# Altium schematic symbol library CompoLib.SchLib: 12 symbols
Pins are listed as number, name and electrical type; pins without a type are passive.

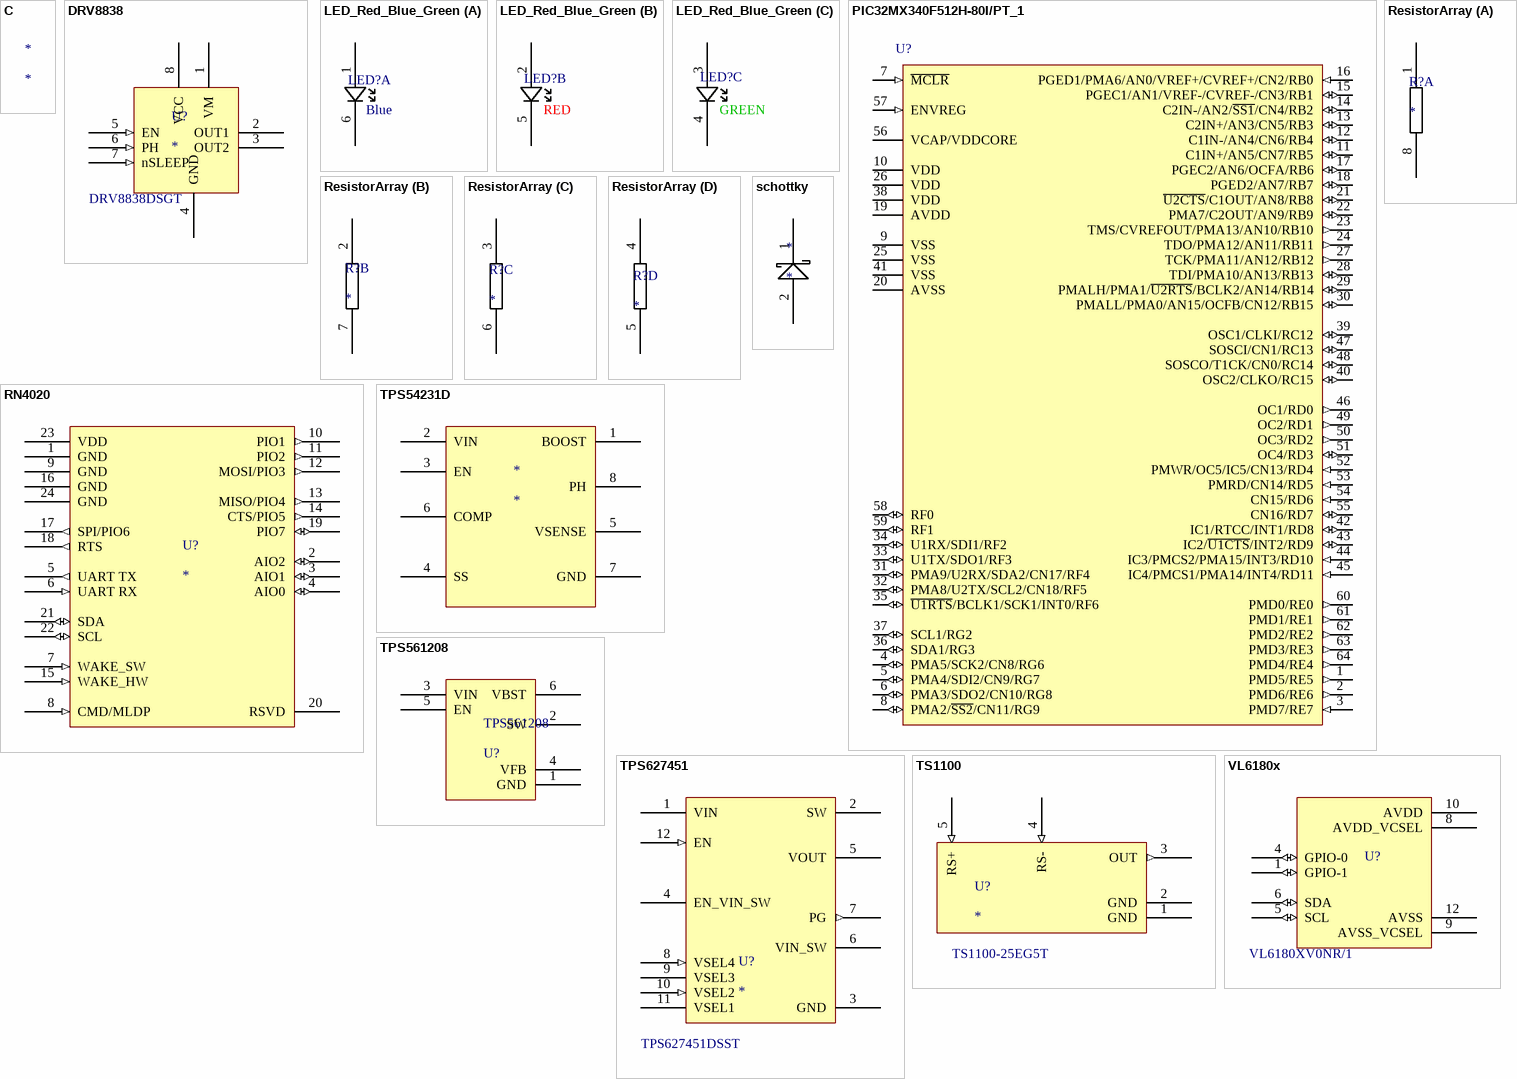
[diagram p0: symbols C to VL6180x]

## C
designator *

## DRV8838
designator U?  RefFabricant: DRV8838DSGT
Moteur Driver [H - bridge]; Fabricant: Texas instrument; Fournisseur: farnell; RefFournisseur: *; Footprint: S-PWSON-N8
footprint S-PWSON-N8
pins: 1 VM (power), 2 OUT1, 3 OUT2, 4 GND (power), 5 EN (in), 6 PH (in), 7 nSLEEP (in), 8 VCC (power)

## LED_Red_Blue_Green
designator LED?
PICOLED, Rouge, Vert, Bleu, CMS, Rectangulaire, R 5mA, G 5mA, B 5mA; Fournisseur: Farnell; RefFournisseur: 2507558RL; Fabricant: ROHM; RefFabricant: SMLP36RGB2W3R
footprint SMLP36 (PICOLED - RGB)
part A pins: 1, 6
part B pins: 2, 5
part C pins: 3, 4
part A text: Blue
part B text: RED
part C text: GREEN

## PIC32MX340F512H-80I/PT_1
designator U?
High Performance 80 MHz MIPS-Based 32-Bit Flash Microcontroller, 512KB Program Memory, 64-pin TQFP; Published: 29-Jan-2009; LatestRevisionDate: 2-Dec-2009; LatestRevisionNote: Datasheet updated to version revF, Jun-2009.; DatasheetVersion: revF, Jun-2009; PackageVersion: revBB, Aug-2009; PackageReference: TQFP-PT64; Publisher: Altium Limited; PackageDescription: 64-Lead Thin Plastic Quad Flat Pack (PT) - 10x10x1mm Body, 2.00mm [TQFP]; Supplier 1: Digi-Key; Supplier Part Number 1: PIC32MX340F512H-80I/PT-ND; Supplier 2: Farnell; Supplier Part Number 2: 1677915; Code_JEDEC: MS-026; ComponentLink1Description: Datasheet; ComponentLink1URL: http://ww1.microchip.com/downloads/en/DeviceDoc/61143F.pdf; ComponentLink2Description: Packaging Specification; ComponentLink2URL: http://ww1.microchip.com/downloads/en/PackagingSpec/en012702.pdf; ComponentLink3Description: Microchip.com Home; ComponentLink3URL: http://www.microchip.com/
footprint TSQFP50P1200X1200X120-64N (TSQFP, 64-Leads, Body 10.00x10.00mm, Pitch 0.50mm, IPC Medium Density)
pins: 1 PMD5/RE5 (out), 2 PMD6/RE6 (out), 3 PMD7/RE7 (in), 4 PMA5/SCK2/CN8/RG6 (io), 5 PMA4/SDI2/CN9/RG7 (io), 6 PMA3/SDO2/CN10/RG8 (io), 7 ~{MCLR} (in), 8 PMA2/~{SS2}/CN11/RG9 (io), 9 VSS (power), 10 VDD (power), 11 C1IN+/AN5/CN7/RB5 (io), 12 C1IN-/AN4/CN6/RB4 (io), 13 C2IN+/AN3/CN5/RB3 (io), 14 C2IN-/AN2/~{SS1}/CN4/RB2 (io), 15 PGEC1/AN1/VREF-/CVREF-/CN3/RB1 (io), 16 PGED1/PMA6/AN0/VREF+/CVREF+/CN2/RB0 (in), 17 PGEC2/AN6/OCFA/RB6 (io), 18 PGED2/AN7/RB7 (io), 19 AVDD (power), 20 AVSS (power), 21 ~{U2CTS}/C1OUT/AN8/RB8 (io), 22 PMA7/C2OUT/AN9/RB9 (io), 23 TMS/CVREFOUT/PMA13/AN10/RB10 (out), 24 TDO/PMA12/AN11/RB11 (out), 25 VSS (power), 26 VDD (power), 27 TCK/PMA11/AN12/RB12 (out), 28 TDI/PMA10/AN13/RB13 (io), 29 PMALH/PMA1/~{U2RTS}/BCLK2/AN14/RB14 (io), 30 PMALL/PMA0/AN15/OCFB/CN12/RB15 (io), 31 PMA9/U2RX/SDA2/CN17/RF4 (io), 32 PMA8/U2TX/SCL2/CN18/RF5 (io), 33 U1TX/SDO1/RF3 (io), 34 U1RX/SDI1/RF2 (io), 35 ~{U1RTS}/BCLK1/SCK1/INT0/RF6 (io), 36 SDA1/RG3 (io), 37 SCL1/RG2 (io), 38 VDD (power), 39 OSC1/CLKI/RC12 (io), 40 OSC2/CLKO/RC15 (io), 41 VSS (power), 42 IC1/RTCC/INT1/RD8 (io), 43 IC2/~{U1CTS}/INT2/RD9 (io), 44 IC3/PMCS2/PMA15/INT3/RD10 (in), 45 IC4/PMCS1/PMA14/INT4/RD11 (in), 46 OC1/RD0 (out), 47 SOSCI/CN1/RC13 (io), 48 SOSCO/T1CK/CN0/RC14 (io), 49 OC2/RD1 (out), 50 OC3/RD2 (out), 51 OC4/RD3 (io), 52 PMWR/OC5/IC5/CN13/RD4 (in), 53 PMRD/CN14/RD5 (in), 54 CN15/RD6 (in), 55 CN16/RD7 (io), 56 VCAP/VDDCORE (power), 57 ENVREG (in), 58 RF0 (io), 59 RF1 (io), 60 PMD0/RE0 (out), 61 PMD1/RE1 (out), 62 PMD2/RE2 (out), 63 PMD3/RE3 (out), 64 PMD4/RE4 (out)

## ResistorArray
designator R?
Fabricant: *; RefFabricant: *; value: *; Fournisseur: *; RefFournisseur: *; Footprint: *
footprint EXB38V (Chip Resistor Array, (0603x4); SM; 8 Leads; Body 3.40 x 1.75 mm (LxW max))
part A pins: 1, 8
part B pins: 2, 7
part C pins: 3, 6
part D pins: 4, 5

## RN4020
designator U?
RN4020 Bluetooth® Low Energy Module; Fabricant: microchip; Fournisseur: *; RefFournisseur: *; RefFabricant: RN4020
footprint RN4020 (Bluetooth® Low Energy Module)
pins: 1 GND (power), 2 AIO2 (io), 3 AIO1 (io), 4 AIO0 (io), 5 UART TX (out), 6 UART RX (in), 7 WAKE_SW (in), 8 CMD/MLDP  (in), 9 GND (power), 10 PIO1 (out), 11 PIO2 (out), 12 MOSI/PIO3 (out), 13 MISO/PIO4 (out), 14 CTS/PIO5 (out), 15 WAKE_HW (in), 16 GND (power), 17 SPI/PIO6 (out), 18 RTS  (out), 19 PIO7 (io), 20 RSVD, 21 SDA (io), 22 SCL (io), 23 VDD (power), 24 GND (power)

## schottky
designator *
pins: 1, 2

## TPS54231D
designator *
footprint SOIC8
pins: 1 BOOST, 2 VIN, 3 EN, 4 SS, 5 VSENSE, 6 COMP, 7 GND, 8 PH

## TPS561208
designator TPS561208, comment U?
RefFabricant: *; RefFournisseur: *; Footprint: *; Fabricant: *; Fournisseur: *
footprint SOT23-6 (SOT-23/6; 6 Leads; Body 1.6 x 2.9 mm, inc. leads (LxW max))
pins: 1 GND (power), 2 SW (power), 3 VIN, 4 VFB (power), 5 EN, 6 VBST

## TPS627451
designator U?  RefFabricant: TPS627451DSST
DC/DC CONV, SYNC BUCK, 2.5MHZ; Fournisseur: Farnell; Fabricant: Texas Instruments; RefFournisseur: *; Footprint: WSON-12
footprint R-PWSON-N12
pins: 1 VIN (power), 2 SW (power), 3 GND (power), 4 EN_VIN_SW, 5 VOUT (power), 6 VIN_SW, 7 PG (out), 8 VSEL4 (in), 9 VSEL3, 10 VSEL2 (in), 11 VSEL1, 12 EN (in)

## TS1100
designator U?  RefFabricant: TS1100-25EG5T
Current Sense Amplifier, Precision, 1; Fabricant: Silicon Lab; Fournisseur: Farnell; RefFournisseur: *; Footprint: SOT-23 - 5
footprint SOT23-5 (SOT-23/SC-74A; 5 Leads; Body 3.1 x 3 mm, inc. leads (LxW max))
pins: 1 GND (power), 2 GND (power), 3 OUT (out), 4 RS- (in), 5 RS+ (in)

## VL6180x
designator U?  RefFabricant: VL6180XV0NR/1
IR proximity sensor; Fabricant: STmicroelectronics; Fournisseur: Farnell; RefFournisseur: *; Footprint: LGA12
footprint LGA12 (optical IR sensor)
pins: 1 GPIO-1 (io), 4 GPIO-0 (io), 5 SCL (io), 6 SDA (io), 8 AVDD_VCSEL (power), 9 AVSS_VCSEL (power), 10 AVDD (power), 12 AVSS (power)